# Altium schematic symbol library kmilo17pet-TI_BattMgmt.SchLib: 950 symbols (part 30 of 60)
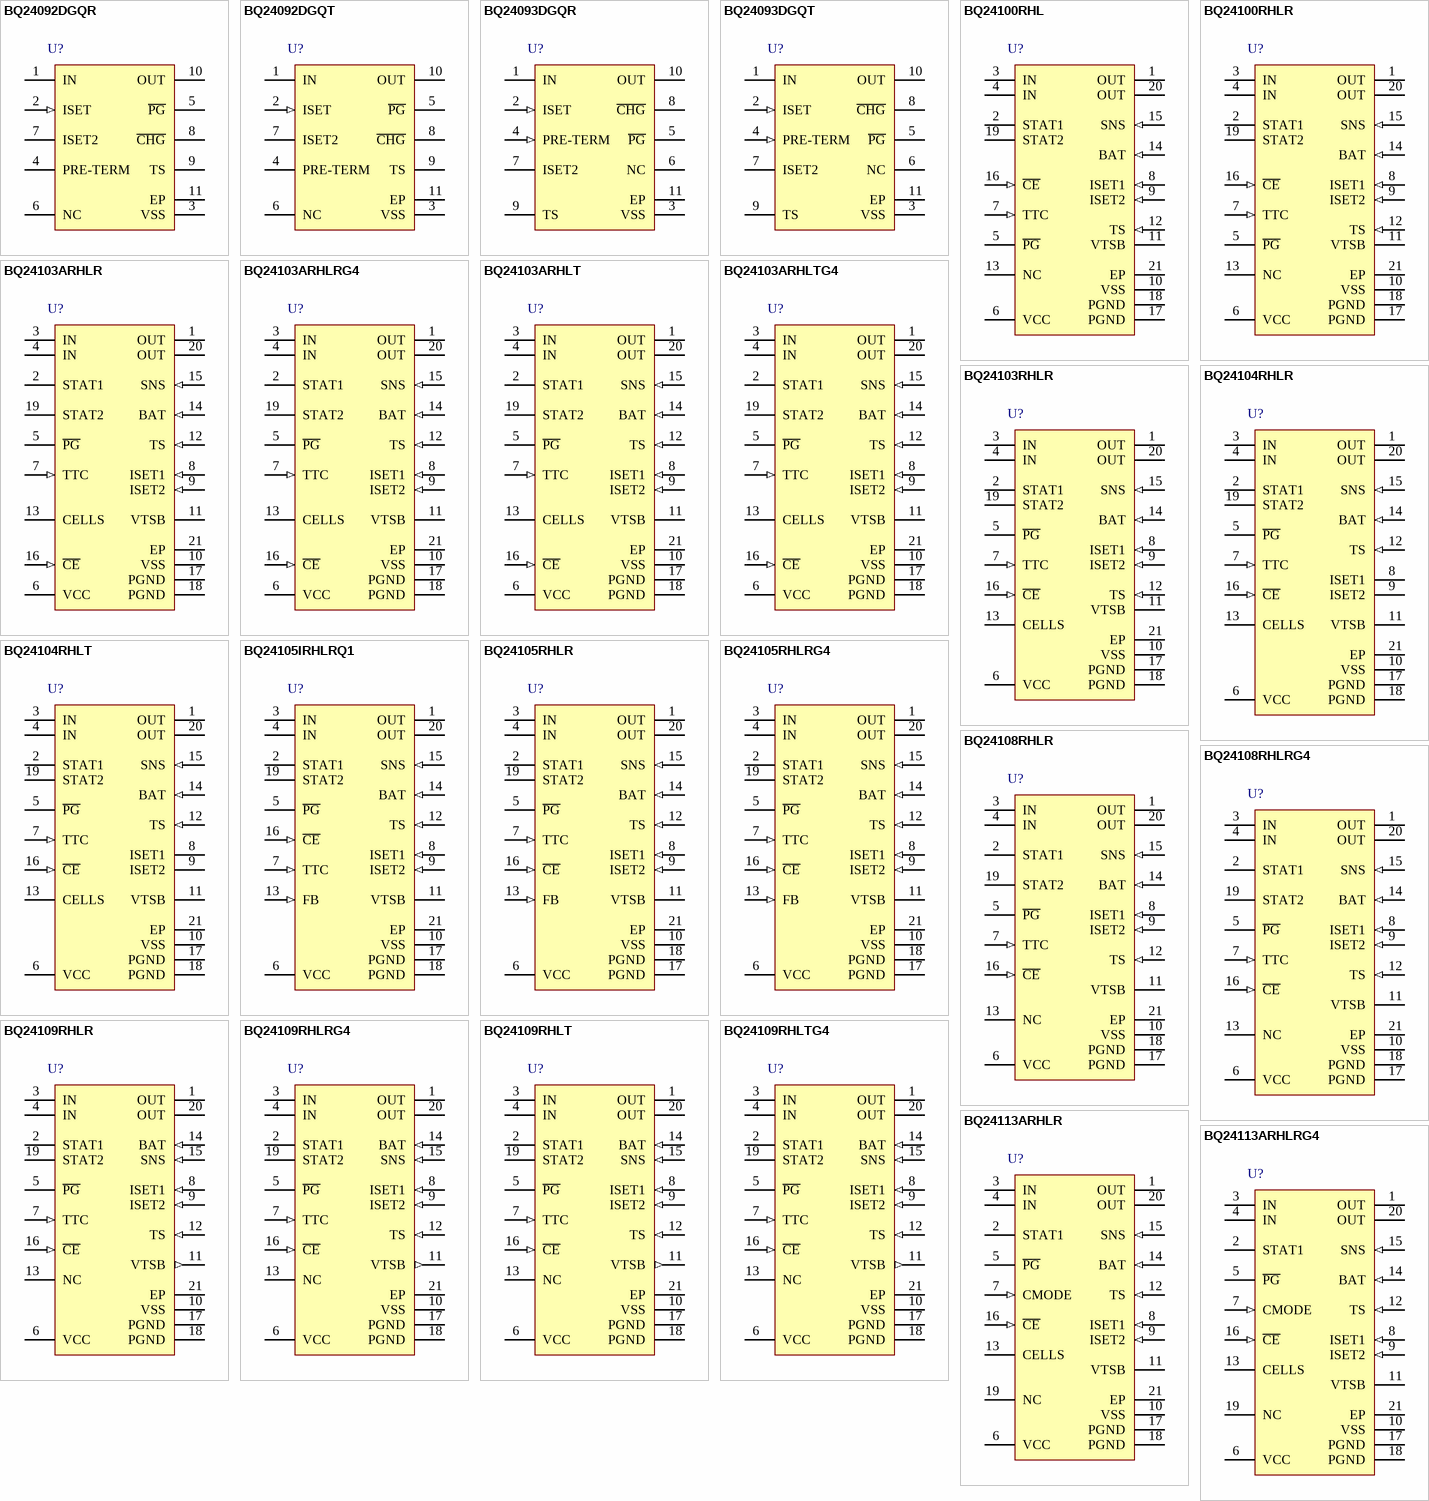
[diagram p63: symbols BQ24092DGQR to BQ24113ARHLRG4]

## BQ24109RHLR
designator U?
Synchronous Switchmode, Li-Ion & Li-Pol Charge Mngmt IC (bqSwitcher), 4.3 V, -40 to 125 degC, 20-pin QFN (RHL), Green (RoHS & no Sb/Br); PartNumber: BQ24109RHLR; Manufacturer: Texas Instruments; Lead Acid: N; Li-Ion: Y; SubFamily: Battery Charge Management; Vin(Min)(V): 4.3; DatasheetVersion: SLUS606O; PackageVersion: revJ, Dec-2011; PackageReference: RHL20-3050X2050TP; PackageDescription: 20-Leads Plastic Quad Flatpack No-Lead, 4.5 x 3.5 x 0.9 mm Body, 0.5 mm Pitch, Exposed Pad; Supplier 1: Digi-Key; Supplier Part Number 1: 296-22956-2-ND; Supplier Part Number 3: 296-22956-6-ND; Eco-Plan: Green (RoHS & no Sb/Br); Li-Polymer: Y; NiCd: N; NiMH: N; Over Voltage Protection: N; Mounting Technology: Surface Mount; ComponentLink1Description: Datasheet; ComponentLink1URL: http://www.ti.com/general/docs/lit/getliterature.tsp?genericPartNumber=BQ24109&fileType=pdf
footprint RHL20-3050X2050TP (QFN, 20-Leads, Body 4.5x3.5mm, Pitch 0.5mm, Thermal Pad 3.05x2.05mm, TI Recommended)
pins: 1 OUT (power) "Charge current output inductor connection. Connect a zener TVS diode between OUT pin and PGND pin to clamp the voltage spike to protect the power MOSFETs during abnormal conditions.", 2 STAT1 (oc) "Charge status 1 (open-drain output). When the transistor turns on indicates charge in process. When it is off and with the condition of STAT2 indicates various charger conditions (See Table 1)", 3 IN (power) "Charger input voltage.", 4 IN (power) "Charger input voltage.", 5 ~{PG} (oc) "Power-good status output (open drain). The transistor turns on when a valid VCC is detected. It is turned off in the sleep mode. P\G\ can be used to drive a LED or communicate with a host processor.", 6 VCC (power) "Analog device input. A 0.1 uF capacitor to VSS is required.", 7 TTC (in) "Timer and termination control. Connect a capacitor from this node to GND to set the bqSWITCHER timer. When this input is low, the timer and termination detection are disabled.", 8 ISET1 (in) "Charger current set point 1 (fast charge). Use a resistor to ground to set this value.", 9 ISET2 (in) "Charge current set point 2 (precharge and termination), set by a resistor connected to ground. A low-level CMODE signal selects the ISET2 charge rate, but if the battery voltage reaches the regulation set point, bqSWITCHER (See Datasheet)", 10 VSS (power) "Analog ground input", 11 VTSB (out) "TS internal bias regulator voltage. Connect capacitor (with a value between a 0.1-uF and 1-uF) between this output and VSS.", 12 TS (in) "Temperature sense input. This input monitors its voltage against an internal threshold to determine if charging is allowed. Use an NTC thermistor and a voltage divider powered from VTSB to develop this voltage. (See Figure (See Datasheet)", 13 NC "No connection. This pin must be left floating in the application.", 14 BAT (in) "Battery voltage sense input. Bypass it with a 0.1u F capacitor to PGND if there are long inductive leads to battery.", 15 SNS (in) "Charge current-sense input. Battery current is sensed via the voltage drop developed on this pin by an external sense resistor in series with the battery pack. A 0.1-uF capacitor to PGND is required.", 16 ~{CE} (in) "Charger enable input. This active low input, if set high, suspends charge and places the device in the low-power sleep mode. Do not pull up this input to VTSB.", 17 PGND (power) "Power ground input", 18 PGND (power) "Power ground input", 19 STAT2 (oc) "Charge status 2 (open-drain output). When the transistor turns on indicates charge is done. When it is off and with the condition of STAT1 indicates various charger conditions (See Table 1)", 20 OUT (power) "Charge current output inductor connection. Connect a zener TVS diode between OUT pin and PGND pin to clamp the voltage spike to protect the power MOSFETs during abnormal conditions.", 21 EP (power) "There is an internal electrical connection between the exposed thermal pad and VSS. The exposed thermal pad must be connected to the same potential as the VSS pin on the printed circuit board. The power pad can be used as a (See Datasheet)"

## BQ24109RHLRG4
designator U?
Synchronous Switchmode, Li-Ion & Li-Pol Charge Mngmt IC (bqSwitcher), 4.3 V, -40 to 125 degC, 20-pin QFN (RHL), Green (RoHS & no Sb/Br); PartNumber: BQ24109RHLRG4; Manufacturer: Texas Instruments; Lead Acid: N; Li-Ion: Y; SubFamily: Battery Charge Management; Vin(Min)(V): 4.3; DatasheetVersion: SLUS606O; PackageVersion: revJ, Dec-2011; PackageReference: RHL20-3050X2050TP; PackageDescription: 20-Leads Plastic Quad Flatpack No-Lead, 4.5 x 3.5 x 0.9 mm Body, 0.5 mm Pitch, Exposed Pad; Supplier 1: Digi-Key; Supplier Part Number 1: BQ24109RHLRG4-ND; Eco-Plan: Green (RoHS & no Sb/Br); Li-Polymer: Y; NiCd: N; NiMH: N; Over Voltage Protection: N; Mounting Technology: Surface Mount; ComponentLink1Description: Datasheet; ComponentLink1URL: http://www.ti.com/general/docs/lit/getliterature.tsp?genericPartNumber=BQ24109&fileType=pdf
footprint RHL20-3050X2050TP (QFN, 20-Leads, Body 4.5x3.5mm, Pitch 0.5mm, Thermal Pad 3.05x2.05mm, TI Recommended)
pins: 1 OUT (power) "Charge current output inductor connection. Connect a zener TVS diode between OUT pin and PGND pin to clamp the voltage spike to protect the power MOSFETs during abnormal conditions.", 2 STAT1 (oc) "Charge status 1 (open-drain output). When the transistor turns on indicates charge in process. When it is off and with the condition of STAT2 indicates various charger conditions (See Table 1)", 3 IN (power) "Charger input voltage.", 4 IN (power) "Charger input voltage.", 5 ~{PG} (oc) "Power-good status output (open drain). The transistor turns on when a valid VCC is detected. It is turned off in the sleep mode. P\G\ can be used to drive a LED or communicate with a host processor.", 6 VCC (power) "Analog device input. A 0.1 uF capacitor to VSS is required.", 7 TTC (in) "Timer and termination control. Connect a capacitor from this node to GND to set the bqSWITCHER timer. When this input is low, the timer and termination detection are disabled.", 8 ISET1 (in) "Charger current set point 1 (fast charge). Use a resistor to ground to set this value.", 9 ISET2 (in) "Charge current set point 2 (precharge and termination), set by a resistor connected to ground. A low-level CMODE signal selects the ISET2 charge rate, but if the battery voltage reaches the regulation set point, bqSWITCHER (See Datasheet)", 10 VSS (power) "Analog ground input", 11 VTSB (out) "TS internal bias regulator voltage. Connect capacitor (with a value between a 0.1-uF and 1-uF) between this output and VSS.", 12 TS (in) "Temperature sense input. This input monitors its voltage against an internal threshold to determine if charging is allowed. Use an NTC thermistor and a voltage divider powered from VTSB to develop this voltage. (See Figure (See Datasheet)", 13 NC "No connection. This pin must be left floating in the application.", 14 BAT (in) "Battery voltage sense input. Bypass it with a 0.1u F capacitor to PGND if there are long inductive leads to battery.", 15 SNS (in) "Charge current-sense input. Battery current is sensed via the voltage drop developed on this pin by an external sense resistor in series with the battery pack. A 0.1-uF capacitor to PGND is required.", 16 ~{CE} (in) "Charger enable input. This active low input, if set high, suspends charge and places the device in the low-power sleep mode. Do not pull up this input to VTSB.", 17 PGND (power) "Power ground input", 18 PGND (power) "Power ground input", 19 STAT2 (oc) "Charge status 2 (open-drain output). When the transistor turns on indicates charge is done. When it is off and with the condition of STAT1 indicates various charger conditions (See Table 1)", 20 OUT (power) "Charge current output inductor connection. Connect a zener TVS diode between OUT pin and PGND pin to clamp the voltage spike to protect the power MOSFETs during abnormal conditions.", 21 EP (power) "There is an internal electrical connection between the exposed thermal pad and VSS. The exposed thermal pad must be connected to the same potential as the VSS pin on the printed circuit board. The power pad can be used as a (See Datasheet)"

## BQ24109RHLT
designator U?
Synchronous Switchmode, Li-Ion & Li-Pol Charge Mngmt IC (bqSwitcher), 4.3 V, -40 to 125 degC, 20-pin QFN (RHL), Green (RoHS & no Sb/Br); PartNumber: BQ24109RHLT; Manufacturer: Texas Instruments; Lead Acid: N; Li-Ion: Y; SubFamily: Battery Charge Management; Vin(Min)(V): 4.3; DatasheetVersion: SLUS606O; PackageVersion: revJ, Dec-2011; PackageReference: RHL20-3050X2050TP; PackageDescription: 20-Leads Plastic Quad Flatpack No-Lead, 4.5 x 3.5 x 0.9 mm Body, 0.5 mm Pitch, Exposed Pad; Supplier 1: Digi-Key; Supplier Part Number 1: BQ24109RHLT-ND; Eco-Plan: Green (RoHS & no Sb/Br); Li-Polymer: Y; NiCd: N; NiMH: N; Over Voltage Protection: N; Mounting Technology: Surface Mount; ComponentLink1Description: Datasheet; ComponentLink1URL: http://www.ti.com/general/docs/lit/getliterature.tsp?genericPartNumber=BQ24109&fileType=pdf
footprint RHL20-3050X2050TP (QFN, 20-Leads, Body 4.5x3.5mm, Pitch 0.5mm, Thermal Pad 3.05x2.05mm, TI Recommended)
pins: 1 OUT (power) "Charge current output inductor connection. Connect a zener TVS diode between OUT pin and PGND pin to clamp the voltage spike to protect the power MOSFETs during abnormal conditions.", 2 STAT1 (oc) "Charge status 1 (open-drain output). When the transistor turns on indicates charge in process. When it is off and with the condition of STAT2 indicates various charger conditions (See Table 1)", 3 IN (power) "Charger input voltage.", 4 IN (power) "Charger input voltage.", 5 ~{PG} (oc) "Power-good status output (open drain). The transistor turns on when a valid VCC is detected. It is turned off in the sleep mode. P\G\ can be used to drive a LED or communicate with a host processor.", 6 VCC (power) "Analog device input. A 0.1 uF capacitor to VSS is required.", 7 TTC (in) "Timer and termination control. Connect a capacitor from this node to GND to set the bqSWITCHER timer. When this input is low, the timer and termination detection are disabled.", 8 ISET1 (in) "Charger current set point 1 (fast charge). Use a resistor to ground to set this value.", 9 ISET2 (in) "Charge current set point 2 (precharge and termination), set by a resistor connected to ground. A low-level CMODE signal selects the ISET2 charge rate, but if the battery voltage reaches the regulation set point, bqSWITCHER (See Datasheet)", 10 VSS (power) "Analog ground input", 11 VTSB (out) "TS internal bias regulator voltage. Connect capacitor (with a value between a 0.1-uF and 1-uF) between this output and VSS.", 12 TS (in) "Temperature sense input. This input monitors its voltage against an internal threshold to determine if charging is allowed. Use an NTC thermistor and a voltage divider powered from VTSB to develop this voltage. (See Figure (See Datasheet)", 13 NC "No connection. This pin must be left floating in the application.", 14 BAT (in) "Battery voltage sense input. Bypass it with a 0.1u F capacitor to PGND if there are long inductive leads to battery.", 15 SNS (in) "Charge current-sense input. Battery current is sensed via the voltage drop developed on this pin by an external sense resistor in series with the battery pack. A 0.1-uF capacitor to PGND is required.", 16 ~{CE} (in) "Charger enable input. This active low input, if set high, suspends charge and places the device in the low-power sleep mode. Do not pull up this input to VTSB.", 17 PGND (power) "Power ground input", 18 PGND (power) "Power ground input", 19 STAT2 (oc) "Charge status 2 (open-drain output). When the transistor turns on indicates charge is done. When it is off and with the condition of STAT1 indicates various charger conditions (See Table 1)", 20 OUT (power) "Charge current output inductor connection. Connect a zener TVS diode between OUT pin and PGND pin to clamp the voltage spike to protect the power MOSFETs during abnormal conditions.", 21 EP (power) "There is an internal electrical connection between the exposed thermal pad and VSS. The exposed thermal pad must be connected to the same potential as the VSS pin on the printed circuit board. The power pad can be used as a (See Datasheet)"

## BQ24109RHLTG4
designator U?
Synchronous Switchmode, Li-Ion & Li-Pol Charge Mngmt IC (bqSwitcher), 4.3 V, -40 to 125 degC, 20-pin QFN (RHL), Green (RoHS & no Sb/Br); PartNumber: BQ24109RHLTG4; Manufacturer: Texas Instruments; Lead Acid: N; Li-Ion: Y; SubFamily: Battery Charge Management; Vin(Min)(V): 4.3; DatasheetVersion: SLUS606O; PackageVersion: revJ, Dec-2011; PackageReference: RHL20-3050X2050TP; PackageDescription: 20-Leads Plastic Quad Flatpack No-Lead, 4.5 x 3.5 x 0.9 mm Body, 0.5 mm Pitch, Exposed Pad; Supplier 1: Digi-Key; Supplier Part Number 1: BQ24109RHLTG4-ND; Eco-Plan: Green (RoHS & no Sb/Br); Li-Polymer: Y; NiCd: N; NiMH: N; Over Voltage Protection: N; Mounting Technology: Surface Mount; ComponentLink1Description: Datasheet; ComponentLink1URL: http://www.ti.com/general/docs/lit/getliterature.tsp?genericPartNumber=BQ24109&fileType=pdf
footprint RHL20-3050X2050TP (QFN, 20-Leads, Body 4.5x3.5mm, Pitch 0.5mm, Thermal Pad 3.05x2.05mm, TI Recommended)
pins: 1 OUT (power) "Charge current output inductor connection. Connect a zener TVS diode between OUT pin and PGND pin to clamp the voltage spike to protect the power MOSFETs during abnormal conditions.", 2 STAT1 (oc) "Charge status 1 (open-drain output). When the transistor turns on indicates charge in process. When it is off and with the condition of STAT2 indicates various charger conditions (See Table 1)", 3 IN (power) "Charger input voltage.", 4 IN (power) "Charger input voltage.", 5 ~{PG} (oc) "Power-good status output (open drain). The transistor turns on when a valid VCC is detected. It is turned off in the sleep mode. P\G\ can be used to drive a LED or communicate with a host processor.", 6 VCC (power) "Analog device input. A 0.1 uF capacitor to VSS is required.", 7 TTC (in) "Timer and termination control. Connect a capacitor from this node to GND to set the bqSWITCHER timer. When this input is low, the timer and termination detection are disabled.", 8 ISET1 (in) "Charger current set point 1 (fast charge). Use a resistor to ground to set this value.", 9 ISET2 (in) "Charge current set point 2 (precharge and termination), set by a resistor connected to ground. A low-level CMODE signal selects the ISET2 charge rate, but if the battery voltage reaches the regulation set point, bqSWITCHER (See Datasheet)", 10 VSS (power) "Analog ground input", 11 VTSB (out) "TS internal bias regulator voltage. Connect capacitor (with a value between a 0.1-uF and 1-uF) between this output and VSS.", 12 TS (in) "Temperature sense input. This input monitors its voltage against an internal threshold to determine if charging is allowed. Use an NTC thermistor and a voltage divider powered from VTSB to develop this voltage. (See Figure (See Datasheet)", 13 NC "No connection. This pin must be left floating in the application.", 14 BAT (in) "Battery voltage sense input. Bypass it with a 0.1u F capacitor to PGND if there are long inductive leads to battery.", 15 SNS (in) "Charge current-sense input. Battery current is sensed via the voltage drop developed on this pin by an external sense resistor in series with the battery pack. A 0.1-uF capacitor to PGND is required.", 16 ~{CE} (in) "Charger enable input. This active low input, if set high, suspends charge and places the device in the low-power sleep mode. Do not pull up this input to VTSB.", 17 PGND (power) "Power ground input", 18 PGND (power) "Power ground input", 19 STAT2 (oc) "Charge status 2 (open-drain output). When the transistor turns on indicates charge is done. When it is off and with the condition of STAT1 indicates various charger conditions (See Table 1)", 20 OUT (power) "Charge current output inductor connection. Connect a zener TVS diode between OUT pin and PGND pin to clamp the voltage spike to protect the power MOSFETs during abnormal conditions.", 21 EP (power) "There is an internal electrical connection between the exposed thermal pad and VSS. The exposed thermal pad must be connected to the same potential as the VSS pin on the printed circuit board. The power pad can be used as a (See Datasheet)"

## BQ24113ARHLR
designator U?
Host-Controlled Synchronous Swithc-Mode Li-Ion Charger with 2 A FET, 1 or 2 Cell, 4.3 V, -40 to 85 degC, 20-pin QFN (RHL), Green (RoHS & no Sb/Br); PartNumber: BQ24113ARHLR; Manufacturer: Texas Instruments; Lead Acid: N; Li-Ion: Y; SubFamily: Battery Charge Management; Vin(Min)(V): 4.3; DatasheetVersion: SLUS606O; PackageVersion: revJ, Dec-2011; PackageReference: RHL20-3050X2050TP; PackageDescription: 20-Leads Plastic Quad Flatpack No-Lead, 4.5 x 3.5 x 0.9 mm Body, 0.5 mm Pitch, Exposed Pad; Supplier 1: Digi-Key; Supplier Part Number 1: BQ24113ARHLR-ND; Supplier Part Number 3: 595-BQ24113ARHLR; Eco-Plan: Green (RoHS & no Sb/Br); Li-Polymer: Y; NiCd: N; NiMH: N; Over Voltage Protection: N; Mounting Technology: Surface Mount; ComponentLink1Description: Datasheet; ComponentLink1URL: http://www.ti.com/general/docs/lit/getliterature.tsp?genericPartNumber=BQ24113A&fileType=pdf
footprint RHL20-3050X2050TP (QFN, 20-Leads, Body 4.5x3.5mm, Pitch 0.5mm, Thermal Pad 3.05x2.05mm, TI Recommended)
pins: 1 OUT (power) "Charge current output inductor connection. Connect a zener TVS diode between OUT pin and PGND pin to clamp the voltage spike to protect the power MOSFETs during abnormal conditions.", 2 STAT1 (oc) "Charge status 1 (open-drain output). When the transistor turns on indicates charge in process. When it is off and with the condition of STAT2 indicates various charger conditions (See Table 1)", 3 IN (power) "Charger input voltage", 4 IN (power) "Charger input voltage", 5 ~{PG} (oc) "Power-good status output (open drain). The transistor turns on when a valid VCC is detected. It is turned off in the sleep mode. P\G\ can be used to drive a LED or communicate with a host processor.", 6 VCC (power) "Analog device input. A 0.1 uF capacitor to VSS is required.", 7 CMODE (in) "Charge mode selection: low for precharge as set by ISET2 pin and high (pull up to VTSB or <7 V) for fast charge as set by ISET1.", 8 ISET1 (in) "Charger current set point 1 (fast charge). Use a resistor to ground to set this value.", 9 ISET2 (in) "Charger current set point 1 (fast charge). Use a resistor to ground to set this value.connected to ground. A low-level CMODE signal selects the ISET2 charge rate, but if the battery voltage reaches the regulation set (See Datasheet)", 10 VSS (power) "Analog ground input", 11 VTSB "TS internal bias regulator voltage. Connect capacitor (with a value between a 0.1-uF and 1-uF) between this output and VSS.", 12 TS (in) "Temperature sense input. This input monitors its voltage against an internal threshold to determine if charging is allowed. Use an NTC thermistor and a voltage divider powered from VTSB to develop this voltage. (See Figure (See Datasheet)", 13 CELLS "Available on parts with fixed output voltage. Ground or float for single-cell operation (4.2 V). For two-cell operation (8.4 V) pull up this pin with a resistor to VCC.", 14 BAT (in) "Battery voltage sense input. Bypass it with a 0.1 uF capacitor to PGND if there are long inductive leads to battery.", 15 SNS (in) "Charge current-sense input. Battery current is sensed via the voltage drop developed on this pin by an external sense resistor in series with the battery pack. A 0.1-uF capacitor to PGND is required.", 16 ~{CE} (in) "Charger enable input. This active low input, if set high, suspends charge and places the device in the low-power sleep mode. Do not pull up this input to VTSB.", 17 PGND (power) "Power ground input", 18 PGND (power) "Power ground input", 19 NC "No connection. This pin must be left floating in the application.", 20 OUT (power) "Charge current output inductor connection. Connect a zener TVS diode between OUT pin and PGND pin to clamp the voltage spike to protect the power MOSFETs during abnormal conditions.", 21 EP (power) "There is an internal electrical connection between the exposed thermal pad and VSS. The exposed thermal pad must be connected to the same potential as the VSS pin on the printed circuit board. The power pad can be used as a (See Datasheet)"

## BQ24113ARHLRG4
designator U?
Host-Controlled Synchronous Swithc-Mode Li-Ion Charger with 2 A FET, 1 or 2 Cell, 4.3 V, -40 to 85 degC, 20-pin QFN (RHL), Green (RoHS & no Sb/Br); PartNumber: BQ24113ARHLRG4; Manufacturer: Texas Instruments; Lead Acid: N; Li-Ion: Y; SubFamily: Battery Charge Management; Vin(Min)(V): 4.3; DatasheetVersion: SLUS606O; PackageVersion: revJ, Dec-2011; PackageReference: RHL20-3050X2050TP; PackageDescription: 20-Leads Plastic Quad Flatpack No-Lead, 4.5 x 3.5 x 0.9 mm Body, 0.5 mm Pitch, Exposed Pad; Supplier 1: Digi-Key; Supplier Part Number 1: BQ24113ARHLRG4-ND; Supplier Part Number 3: 595-BQ24113ARHLRG4; Eco-Plan: Green (RoHS & no Sb/Br); Li-Polymer: Y; NiCd: N; NiMH: N; Over Voltage Protection: N; Mounting Technology: Surface Mount; ComponentLink1Description: Datasheet; ComponentLink1URL: http://www.ti.com/general/docs/lit/getliterature.tsp?genericPartNumber=BQ24113A&fileType=pdf
footprint RHL20-3050X2050TP (QFN, 20-Leads, Body 4.5x3.5mm, Pitch 0.5mm, Thermal Pad 3.05x2.05mm, TI Recommended)
pins: 1 OUT (power) "Charge current output inductor connection. Connect a zener TVS diode between OUT pin and PGND pin to clamp the voltage spike to protect the power MOSFETs during abnormal conditions.", 2 STAT1 (oc) "Charge status 1 (open-drain output). When the transistor turns on indicates charge in process. When it is off and with the condition of STAT2 indicates various charger conditions (See Table 1)", 3 IN (power) "Charger input voltage", 4 IN (power) "Charger input voltage", 5 ~{PG} (oc) "Power-good status output (open drain). The transistor turns on when a valid VCC is detected. It is turned off in the sleep mode. P\G\ can be used to drive a LED or communicate with a host processor.", 6 VCC (power) "Analog device input. A 0.1 uF capacitor to VSS is required.", 7 CMODE (in) "Charge mode selection: low for precharge as set by ISET2 pin and high (pull up to VTSB or <7 V) for fast charge as set by ISET1.", 8 ISET1 (in) "Charger current set point 1 (fast charge). Use a resistor to ground to set this value.", 9 ISET2 (in) "Charger current set point 1 (fast charge). Use a resistor to ground to set this value.connected to ground. A low-level CMODE signal selects the ISET2 charge rate, but if the battery voltage reaches the regulation set (See Datasheet)", 10 VSS (power) "Analog ground input", 11 VTSB "TS internal bias regulator voltage. Connect capacitor (with a value between a 0.1-uF and 1-uF) between this output and VSS.", 12 TS (in) "Temperature sense input. This input monitors its voltage against an internal threshold to determine if charging is allowed. Use an NTC thermistor and a voltage divider powered from VTSB to develop this voltage. (See Figure (See Datasheet)", 13 CELLS "Available on parts with fixed output voltage. Ground or float for single-cell operation (4.2 V). For two-cell operation (8.4 V) pull up this pin with a resistor to VCC.", 14 BAT (in) "Battery voltage sense input. Bypass it with a 0.1 uF capacitor to PGND if there are long inductive leads to battery.", 15 SNS (in) "Charge current-sense input. Battery current is sensed via the voltage drop developed on this pin by an external sense resistor in series with the battery pack. A 0.1-uF capacitor to PGND is required.", 16 ~{CE} (in) "Charger enable input. This active low input, if set high, suspends charge and places the device in the low-power sleep mode. Do not pull up this input to VTSB.", 17 PGND (power) "Power ground input", 18 PGND (power) "Power ground input", 19 NC "No connection. This pin must be left floating in the application.", 20 OUT (power) "Charge current output inductor connection. Connect a zener TVS diode between OUT pin and PGND pin to clamp the voltage spike to protect the power MOSFETs during abnormal conditions.", 21 EP (power) "There is an internal electrical connection between the exposed thermal pad and VSS. The exposed thermal pad must be connected to the same potential as the VSS pin on the printed circuit board. The power pad can be used as a (See Datasheet)"

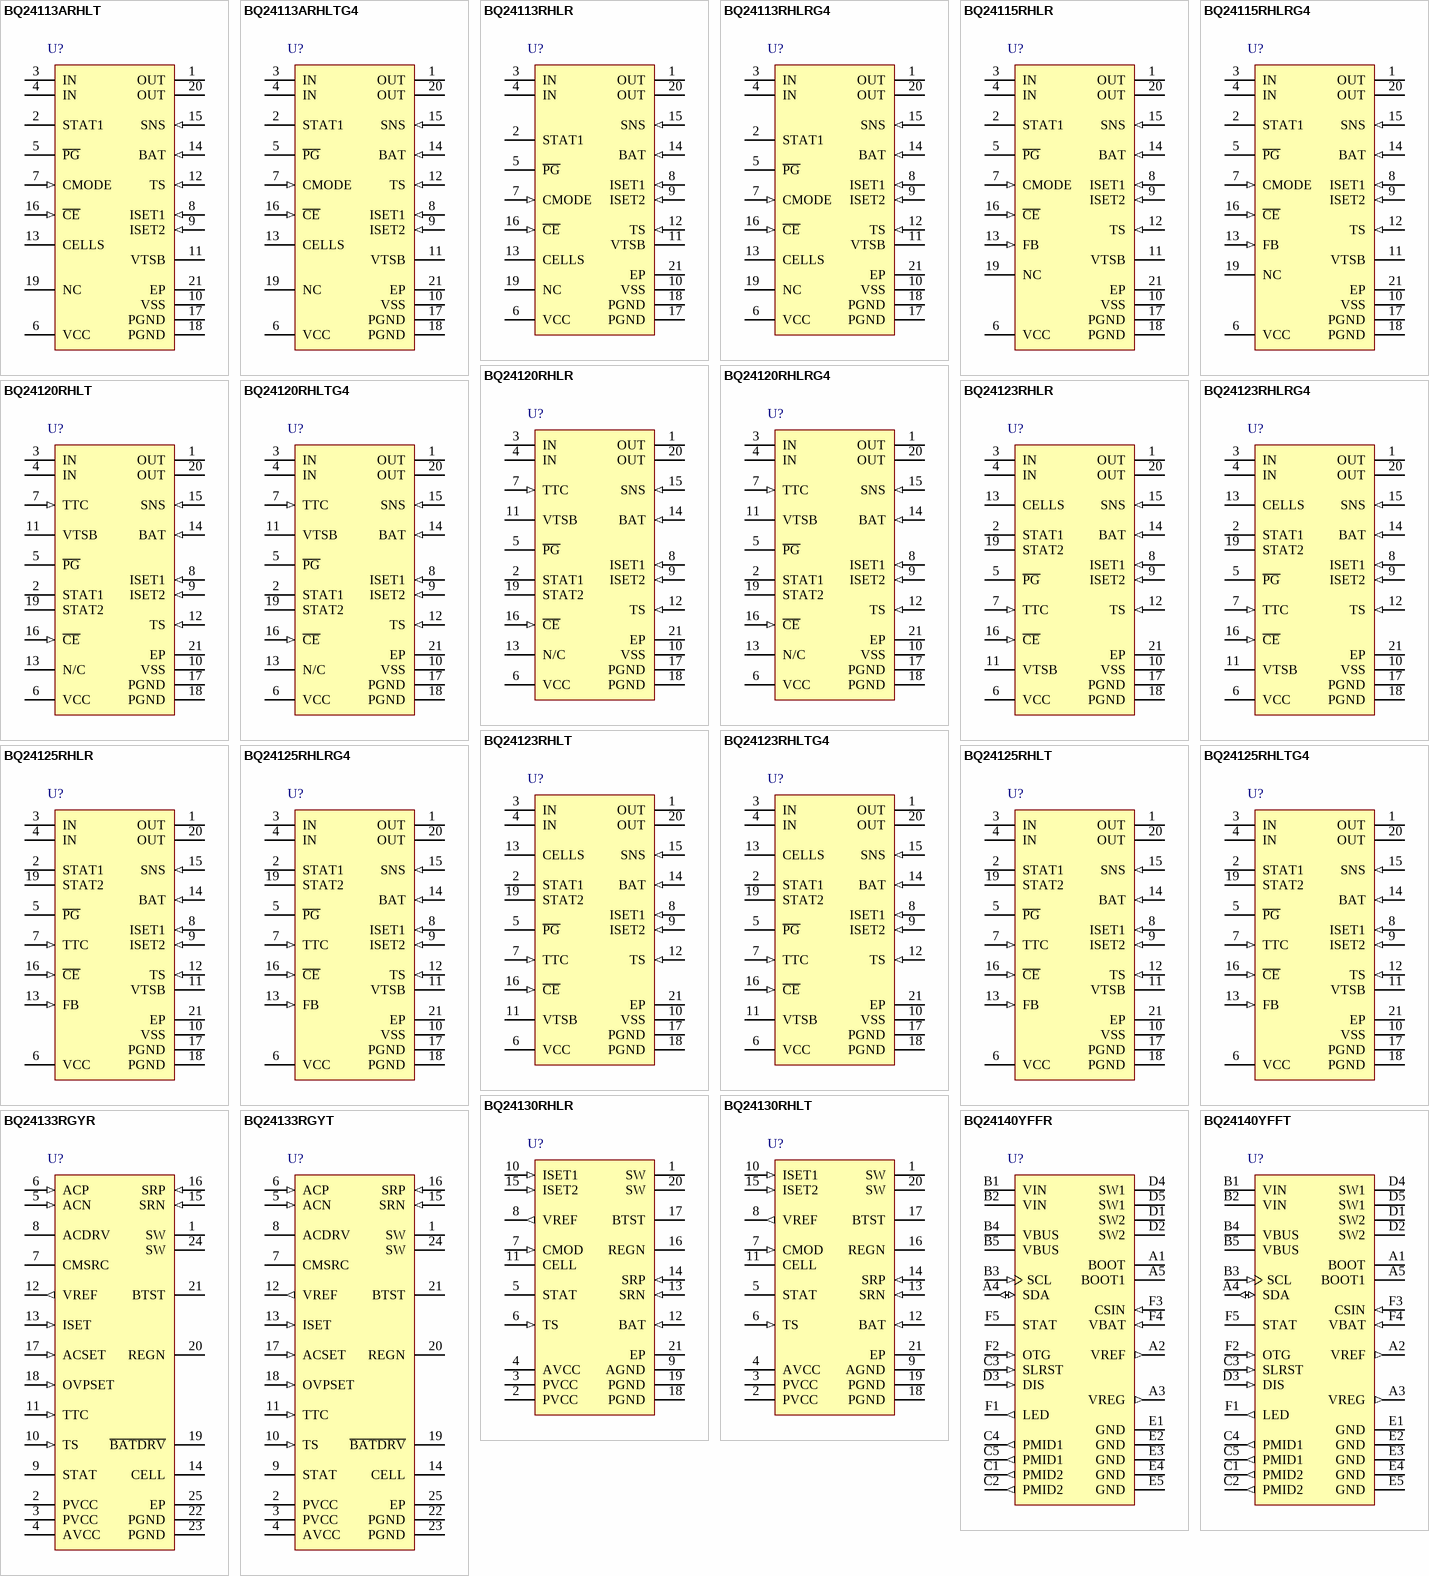
[diagram p18: symbols BQ24113ARHLT to BQ24140YFFT]

## BQ24113ARHLT
designator U?
Host-Controlled Synchronous Swithc-Mode Li-Ion Charger with 2 A FET, 1 or 2 Cell, 4.3 V, -40 to 85 degC, 20-pin QFN (RHL), Green (RoHS & no Sb/Br); PartNumber: BQ24113ARHLT; Manufacturer: Texas Instruments; Lead Acid: N; Li-Ion: Y; SubFamily: Battery Charge Management; Vin(Min)(V): 4.3; DatasheetVersion: SLUS606O; PackageVersion: revJ, Dec-2011; PackageReference: RHL20-3050X2050TP; PackageDescription: 20-Leads Plastic Quad Flatpack No-Lead, 4.5 x 3.5 x 0.9 mm Body, 0.5 mm Pitch, Exposed Pad; Supplier 1: Digi-Key; Supplier Part Number 1: 296-22087-2-ND; Supplier Part Number 3: 296-22087-6-ND; Eco-Plan: Green (RoHS & no Sb/Br); Li-Polymer: Y; NiCd: N; NiMH: N; Over Voltage Protection: N; Mounting Technology: Surface Mount; ComponentLink1Description: Datasheet; ComponentLink1URL: http://www.ti.com/general/docs/lit/getliterature.tsp?genericPartNumber=BQ24113A&fileType=pdf
footprint RHL20-3050X2050TP (QFN, 20-Leads, Body 4.5x3.5mm, Pitch 0.5mm, Thermal Pad 3.05x2.05mm, TI Recommended)
pins: 1 OUT (power) "Charge current output inductor connection. Connect a zener TVS diode between OUT pin and PGND pin to clamp the voltage spike to protect the power MOSFETs during abnormal conditions.", 2 STAT1 (oc) "Charge status 1 (open-drain output). When the transistor turns on indicates charge in process. When it is off and with the condition of STAT2 indicates various charger conditions (See Table 1)", 3 IN (power) "Charger input voltage", 4 IN (power) "Charger input voltage", 5 ~{PG} (oc) "Power-good status output (open drain). The transistor turns on when a valid VCC is detected. It is turned off in the sleep mode. P\G\ can be used to drive a LED or communicate with a host processor.", 6 VCC (power) "Analog device input. A 0.1 uF capacitor to VSS is required.", 7 CMODE (in) "Charge mode selection: low for precharge as set by ISET2 pin and high (pull up to VTSB or <7 V) for fast charge as set by ISET1.", 8 ISET1 (in) "Charger current set point 1 (fast charge). Use a resistor to ground to set this value.", 9 ISET2 (in) "Charger current set point 1 (fast charge). Use a resistor to ground to set this value.connected to ground. A low-level CMODE signal selects the ISET2 charge rate, but if the battery voltage reaches the regulation set (See Datasheet)", 10 VSS (power) "Analog ground input", 11 VTSB "TS internal bias regulator voltage. Connect capacitor (with a value between a 0.1-uF and 1-uF) between this output and VSS.", 12 TS (in) "Temperature sense input. This input monitors its voltage against an internal threshold to determine if charging is allowed. Use an NTC thermistor and a voltage divider powered from VTSB to develop this voltage. (See Figure (See Datasheet)", 13 CELLS "Available on parts with fixed output voltage. Ground or float for single-cell operation (4.2 V). For two-cell operation (8.4 V) pull up this pin with a resistor to VCC.", 14 BAT (in) "Battery voltage sense input. Bypass it with a 0.1 uF capacitor to PGND if there are long inductive leads to battery.", 15 SNS (in) "Charge current-sense input. Battery current is sensed via the voltage drop developed on this pin by an external sense resistor in series with the battery pack. A 0.1-uF capacitor to PGND is required.", 16 ~{CE} (in) "Charger enable input. This active low input, if set high, suspends charge and places the device in the low-power sleep mode. Do not pull up this input to VTSB.", 17 PGND (power) "Power ground input", 18 PGND (power) "Power ground input", 19 NC "No connection. This pin must be left floating in the application.", 20 OUT (power) "Charge current output inductor connection. Connect a zener TVS diode between OUT pin and PGND pin to clamp the voltage spike to protect the power MOSFETs during abnormal conditions.", 21 EP (power) "There is an internal electrical connection between the exposed thermal pad and VSS. The exposed thermal pad must be connected to the same potential as the VSS pin on the printed circuit board. The power pad can be used as a (See Datasheet)"

## BQ24113ARHLTG4
designator U?
Host-Controlled Synchronous Swithc-Mode Li-Ion Charger with 2 A FET, 1 or 2 Cell, 4.3 V, -40 to 85 degC, 20-pin QFN (RHL), Green (RoHS & no Sb/Br); PartNumber: BQ24113ARHLTG4; Manufacturer: Texas Instruments; Lead Acid: N; Li-Ion: Y; SubFamily: Battery Charge Management; Vin(Min)(V): 4.3; DatasheetVersion: SLUS606O; PackageVersion: revJ, Dec-2011; PackageReference: RHL20-3050X2050TP; PackageDescription: 20-Leads Plastic Quad Flatpack No-Lead, 4.5 x 3.5 x 0.9 mm Body, 0.5 mm Pitch, Exposed Pad; Supplier 1: Digi-Key; Supplier Part Number 1: BQ24113ARHLTG4-ND; Supplier Part Number 3: 1494885RL; Eco-Plan: Green (RoHS & no Sb/Br); Li-Polymer: Y; NiCd: N; NiMH: N; Over Voltage Protection: N; Mounting Technology: Surface Mount; ComponentLink1Description: Datasheet; ComponentLink1URL: http://www.ti.com/general/docs/lit/getliterature.tsp?genericPartNumber=BQ24113A&fileType=pdf
footprint RHL20-3050X2050TP (QFN, 20-Leads, Body 4.5x3.5mm, Pitch 0.5mm, Thermal Pad 3.05x2.05mm, TI Recommended)
pins: 1 OUT (power) "Charge current output inductor connection. Connect a zener TVS diode between OUT pin and PGND pin to clamp the voltage spike to protect the power MOSFETs during abnormal conditions.", 2 STAT1 (oc) "Charge status 1 (open-drain output). When the transistor turns on indicates charge in process. When it is off and with the condition of STAT2 indicates various charger conditions (See Table 1)", 3 IN (power) "Charger input voltage", 4 IN (power) "Charger input voltage", 5 ~{PG} (oc) "Power-good status output (open drain). The transistor turns on when a valid VCC is detected. It is turned off in the sleep mode. P\G\ can be used to drive a LED or communicate with a host processor.", 6 VCC (power) "Analog device input. A 0.1 uF capacitor to VSS is required.", 7 CMODE (in) "Charge mode selection: low for precharge as set by ISET2 pin and high (pull up to VTSB or <7 V) for fast charge as set by ISET1.", 8 ISET1 (in) "Charger current set point 1 (fast charge). Use a resistor to ground to set this value.", 9 ISET2 (in) "Charger current set point 1 (fast charge). Use a resistor to ground to set this value.connected to ground. A low-level CMODE signal selects the ISET2 charge rate, but if the battery voltage reaches the regulation set (See Datasheet)", 10 VSS (power) "Analog ground input", 11 VTSB "TS internal bias regulator voltage. Connect capacitor (with a value between a 0.1-uF and 1-uF) between this output and VSS.", 12 TS (in) "Temperature sense input. This input monitors its voltage against an internal threshold to determine if charging is allowed. Use an NTC thermistor and a voltage divider powered from VTSB to develop this voltage. (See Figure (See Datasheet)", 13 CELLS "Available on parts with fixed output voltage. Ground or float for single-cell operation (4.2 V). For two-cell operation (8.4 V) pull up this pin with a resistor to VCC.", 14 BAT (in) "Battery voltage sense input. Bypass it with a 0.1 uF capacitor to PGND if there are long inductive leads to battery.", 15 SNS (in) "Charge current-sense input. Battery current is sensed via the voltage drop developed on this pin by an external sense resistor in series with the battery pack. A 0.1-uF capacitor to PGND is required.", 16 ~{CE} (in) "Charger enable input. This active low input, if set high, suspends charge and places the device in the low-power sleep mode. Do not pull up this input to VTSB.", 17 PGND (power) "Power ground input", 18 PGND (power) "Power ground input", 19 NC "No connection. This pin must be left floating in the application.", 20 OUT (power) "Charge current output inductor connection. Connect a zener TVS diode between OUT pin and PGND pin to clamp the voltage spike to protect the power MOSFETs during abnormal conditions.", 21 EP (power) "There is an internal electrical connection between the exposed thermal pad and VSS. The exposed thermal pad must be connected to the same potential as the VSS pin on the printed circuit board. The power pad can be used as a (See Datasheet)"

## BQ24113RHLR
designator U?
Host-controlled Synchronous Switch-Mode Li-Ion Charger with 2 A FET in QFN-20, 1 or 2 Cell, 4.3 V, -40 to 85 degC, 20-pin QFN (RHL), Green (RoHS & no Sb/Br); PartNumber: BQ24113RHLR; Manufacturer: Texas Instruments; Lead Acid: N; Li-Ion: Y; SubFamily: Battery Charge Management; Vin(Min)(V): 4.3; DatasheetVersion: SLUS606O; PackageVersion: revJ, Dec-2011; PackageReference: RHL20-3050X2050TP; PackageDescription: 20-Leads Plastic Quad Flatpack No-Lead, 4.5 x 3.5 x 0.9 mm Body, 0.5 mm Pitch, Exposed Pad; Supplier 1: Digi-Key; Supplier Part Number 1: 296-17156-2-ND; Supplier Part Number 3: 296-17156-6-ND; Eco-Plan: Green (RoHS & no Sb/Br); Li-Polymer: Y; NiCd: N; NiMH: N; Over Voltage Protection: N; Mounting Technology: Surface Mount; ComponentLink1Description: Datasheet; ComponentLink1URL: http://www.ti.com/general/docs/lit/getliterature.tsp?genericPartNumber=BQ24113&fileType=pdf
footprint RHL20-3050X2050TP (QFN, 20-Leads, Body 4.5x3.5mm, Pitch 0.5mm, Thermal Pad 3.05x2.05mm, TI Recommended)
pins: 1 OUT (power) "Charge current output inductor connection. Connect a zener TVS diode between OUT pin and PGND pin to clamp the voltage spike to protect the power MOSFETs during abnormal conditions.", 2 STAT1 (oc) "Charge status 1 (open-drain output). When the transistor turns on indicates charge in process. When it is off and with the condition of STAT2 indicates various charger conditions (See Table 1)", 3 IN (power) "Charger input voltage.", 4 IN (power) "Charger input voltage.", 5 ~{PG} (oc) "Power-good status output (open drain). The transistor turns on when a valid VCC is detected. It is turned off in the sleep mode. PG can be used to drive a LED or communicate with a host processor.", 6 VCC (power) "Analog device input. A 0.1 uF capacitor to VSS is required.", 7 CMODE (in) "Charge mode selection: low for precharge as set by ISET2 pin and high (pull up to VTSB or <7 V) for fast charge as set by ISET1.", 8 ISET1 (in) "Charger current set point 1 (fast charge). Use a resistor to ground to set this value.", 9 ISET2 (in) "Charge current set point 2 (precharge and termination), set by a resistor connected to ground. A low-level CMODE signal selects the ISET2 charge rate, but if the battery voltage reaches the regulation set point, bqSWITCHER (See Datasheet)", 10 VSS (power) "Analog ground input", 11 VTSB "TS internal bias regulator voltage. Connect capacitor (with a value between a 0.1-uF and 1-uF) between this output and VSS.", 12 TS (in) "Temperature sense input. This input monitors its voltage against an internal threshold to determine if charging is allowed. Use an NTC thermistor and a voltage divider powered from VTSB to develop this voltage. (See Figure (See Datasheet)", 13 CELLS "Available on parts with fixed output voltage. Ground or float for single-cell operation (4.2 V). For two-cell operation (8.4 V) pull up this pin with a resistor to VCC.", 14 BAT (in) "Battery voltage sense input. Bypass it with a 0.1 uF capacitor to PGND if there are long inductive leads to battery.", 15 SNS (in) "Charge current-sense input. Battery current is sensed via the voltage drop developed on this pin by an external sense resistor in series with the battery pack. A 0.1-uF capacitor to PGND is required.", 16 ~{CE} (in) "Charger enable input. This active low input, if set high, suspends charge and places the device in the low-power sleep mode. Do not pull up this input to VTSB.", 17 PGND (power) "Power ground input", 18 PGND (power) "Power ground input", 19 NC "No connection. This pin must be left floating in the application.", 20 OUT (power) "Charge current output inductor connection. Connect a zener TVS diode between OUT pin and PGND pin to clamp the voltage spike to protect the power MOSFETs during abnormal conditions.", 21 EP (power) "There is an internal electrical connection between the exposed thermal pad and VSS. The exposed thermal pad must be connected to the same potential as the VSS pin on the printed circuit board. The power pad can be used as a (See Datasheet)"

## BQ24113RHLRG4
designator U?
Host-controlled Synchronous Switch-Mode Li-Ion Charger with 2 A FET in QFN-20, 1 or 2 Cell, 4.3 V, -40 to 85 degC, 20-pin QFN (RHL), Green (RoHS & no Sb/Br); PartNumber: BQ24113RHLRG4; Manufacturer: Texas Instruments; Lead Acid: N; Li-Ion: Y; SubFamily: Battery Charge Management; Vin(Min)(V): 4.3; DatasheetVersion: SLUS606O; PackageVersion: revJ, Dec-2011; PackageReference: RHL20-3050X2050TP; PackageDescription: 20-Leads Plastic Quad Flatpack No-Lead, 4.5 x 3.5 x 0.9 mm Body, 0.5 mm Pitch, Exposed Pad; Supplier 1: Digi-Key; Supplier Part Number 1: BQ24113RHLRG4-ND; Supplier Part Number 3: 595-BQ24113RHLRG4; Eco-Plan: Green (RoHS & no Sb/Br); Li-Polymer: Y; NiCd: N; NiMH: N; Over Voltage Protection: N; Mounting Technology: Surface Mount; ComponentLink1Description: Datasheet; ComponentLink1URL: http://www.ti.com/general/docs/lit/getliterature.tsp?genericPartNumber=BQ24113&fileType=pdf
footprint RHL20-3050X2050TP (QFN, 20-Leads, Body 4.5x3.5mm, Pitch 0.5mm, Thermal Pad 3.05x2.05mm, TI Recommended)
pins: 1 OUT (power) "Charge current output inductor connection. Connect a zener TVS diode between OUT pin and PGND pin to clamp the voltage spike to protect the power MOSFETs during abnormal conditions.", 2 STAT1 (oc) "Charge status 1 (open-drain output). When the transistor turns on indicates charge in process. When it is off and with the condition of STAT2 indicates various charger conditions (See Table 1)", 3 IN (power) "Charger input voltage.", 4 IN (power) "Charger input voltage.", 5 ~{PG} (oc) "Power-good status output (open drain). The transistor turns on when a valid VCC is detected. It is turned off in the sleep mode. PG can be used to drive a LED or communicate with a host processor.", 6 VCC (power) "Analog device input. A 0.1 uF capacitor to VSS is required.", 7 CMODE (in) "Charge mode selection: low for precharge as set by ISET2 pin and high (pull up to VTSB or <7 V) for fast charge as set by ISET1.", 8 ISET1 (in) "Charger current set point 1 (fast charge). Use a resistor to ground to set this value.", 9 ISET2 (in) "Charge current set point 2 (precharge and termination), set by a resistor connected to ground. A low-level CMODE signal selects the ISET2 charge rate, but if the battery voltage reaches the regulation set point, bqSWITCHER (See Datasheet)", 10 VSS (power) "Analog ground input", 11 VTSB "TS internal bias regulator voltage. Connect capacitor (with a value between a 0.1-uF and 1-uF) between this output and VSS.", 12 TS (in) "Temperature sense input. This input monitors its voltage against an internal threshold to determine if charging is allowed. Use an NTC thermistor and a voltage divider powered from VTSB to develop this voltage. (See Figure (See Datasheet)", 13 CELLS "Available on parts with fixed output voltage. Ground or float for single-cell operation (4.2 V). For two-cell operation (8.4 V) pull up this pin with a resistor to VCC.", 14 BAT (in) "Battery voltage sense input. Bypass it with a 0.1 uF capacitor to PGND if there are long inductive leads to battery.", 15 SNS (in) "Charge current-sense input. Battery current is sensed via the voltage drop developed on this pin by an external sense resistor in series with the battery pack. A 0.1-uF capacitor to PGND is required.", 16 ~{CE} (in) "Charger enable input. This active low input, if set high, suspends charge and places the device in the low-power sleep mode. Do not pull up this input to VTSB.", 17 PGND (power) "Power ground input", 18 PGND (power) "Power ground input", 19 NC "No connection. This pin must be left floating in the application.", 20 OUT (power) "Charge current output inductor connection. Connect a zener TVS diode between OUT pin and PGND pin to clamp the voltage spike to protect the power MOSFETs during abnormal conditions.", 21 EP (power) "There is an internal electrical connection between the exposed thermal pad and VSS. The exposed thermal pad must be connected to the same potential as the VSS pin on the printed circuit board. The power pad can be used as a (See Datasheet)"

## BQ24115RHLR
designator U?
Host-controlled Synchronous, Switch-Mode Li-Ion Charger with 2 A FET in QFN-20, 1 to 3 Cells, 4.3 V, -40 to 85 degC, 20-pin QFN (RHL), Green (RoHS & no Sb/Br); PartNumber: BQ24115RHLR; Manufacturer: Texas Instruments; Lead Acid: N; Li-Ion: Y; SubFamily: Battery Charge Management; Vin(Min)(V): 4.3; DatasheetVersion: SLUS606O; PackageVersion: revJ, Dec-2011; PackageReference: RHL20-3050X2050TP; PackageDescription: 20-Leads Plastic Quad Flatpack No-Lead, 4.5 x 3.5 x 0.9 mm Body, 0.5 mm Pitch, Exposed Pad; Supplier 1: Digi-Key; Supplier Part Number 1: 296-17160-2-ND; Supplier Part Number 3: 296-17160-6-ND; Eco-Plan: Green (RoHS & no Sb/Br); Li-Polymer: Y; NiCd: N; NiMH: N; Over Voltage Protection: N; Mounting Technology: Surface Mount; ComponentLink1Description: Datasheet; ComponentLink1URL: http://www.ti.com/general/docs/lit/getliterature.tsp?genericPartNumber=BQ24115&fileType=pdf
footprint RHL20-3050X2050TP (QFN, 20-Leads, Body 4.5x3.5mm, Pitch 0.5mm, Thermal Pad 3.05x2.05mm, TI Recommended)
pins: 1 OUT (power) "Charge current output inductor connection. Connect a zener TVS diode between OUT pin and PGND pin to clamp the voltage spike to protect the power MOSFETs during abnormal conditions.", 2 STAT1 (oc) "Charge status 1 (open-drain output). When the transistor turns on indicates charge in process. When it is off and with the condition of STAT2 indicates various charger conditions (See Table 1)", 3 IN (power) "Charger input voltage.", 4 IN (power) "Charger input voltage.", 5 ~{PG} (oc) "Power-good status output (open drain). The transistor turns on when a valid VCC is detected. It is turned off in the sleep mode. P\G\ can be used to drive a LED or communicate with a host processor.", 6 VCC (power) "Analog device input. A 0.1 uF capacitor to VSS is required.", 7 CMODE (in) "Charge mode selection: low for precharge as set by ISET2 pin and high (pull up to VTSB or <7 V) for fast charge as set by ISET1.", 8 ISET1 (in) "Charger current set point 1 (fast charge). Use a resistor to ground to set this value.", 9 ISET2 (in) "Charge current set point 2 (precharge and termination), set by a resistor connected to ground. A low-level CMODE signal selects the ISET2 charge rate, but if the battery voltage reaches the regulation set point, bqSWITCHER (See Datasheet)", 10 VSS (power) "Analog ground input", 11 VTSB "TS internal bias regulator voltage. Connect capacitor (with a value between a 0.1-uF and 1-uF) between this output and VSS.", 12 TS (in) "Temperature sense input. This input monitors its voltage against an internal threshold to determine if charging is allowed. Use an NTC thermistor and a voltage divider powered from VTSB to develop this voltage. (See Figure (See Datasheet)", 13 FB (in) "Output voltage analog feedback adjustment. Connect the output of a resistive voltage divider powered from the battery terminals to this node to adjust the output battery voltage regulation.", 14 BAT (in) "Battery voltage sense input. Bypass it with a 0.1 uF capacitor to PGND if there are long inductive leads to battery.", 15 SNS (in) "Charge current-sense input. Battery current is sensed via the voltage drop developed on this pin by an external sense resistor in series with the battery pack. A 0.1-uF capacitor to PGND is required.", 16 ~{CE} (in) "Charger enable input. This active low input, if set high, suspends charge and places the device in the low-power sleep mode. Do not pull up this input to VTSB.", 17 PGND (power) "Power ground input", 18 PGND (power) "Power ground input", 19 NC "No connection. This pin must be left floating in the application.", 20 OUT (power) "Charge current output inductor connection. Connect a zener TVS diode between OUT pin and PGND pin to clamp the voltage spike to protect the power MOSFETs during abnormal conditions.", 21 EP (power) "There is an internal electrical connection between the exposed thermal pad and VSS. The exposed thermal pad must be connected to the same potential as the VSS pin on the printed circuit board. The power pad can be used as a (See Datasheet)"

## BQ24115RHLRG4
designator U?
Host-controlled Synchronous, Switch-Mode Li-Ion Charger with 2 A FET in QFN-20, 1 to 3 Cells, 4.3 V, -40 to 85 degC, 20-pin QFN (RHL), Green (RoHS & no Sb/Br); PartNumber: BQ24115RHLRG4; Manufacturer: Texas Instruments; Lead Acid: N; Li-Ion: Y; SubFamily: Battery Charge Management; Vin(Min)(V): 4.3; DatasheetVersion: SLUS606O; PackageVersion: revJ, Dec-2011; PackageReference: RHL20-3050X2050TP; PackageDescription: 20-Leads Plastic Quad Flatpack No-Lead, 4.5 x 3.5 x 0.9 mm Body, 0.5 mm Pitch, Exposed Pad; Supplier 1: Digi-Key; Supplier Part Number 1: BQ24115RHLRG4-ND; Supplier Part Number 3: 595-BQ24115RHLRG4; Eco-Plan: Green (RoHS & no Sb/Br); Li-Polymer: Y; NiCd: N; NiMH: N; Over Voltage Protection: N; Mounting Technology: Surface Mount; ComponentLink1Description: Datasheet; ComponentLink1URL: http://www.ti.com/general/docs/lit/getliterature.tsp?genericPartNumber=BQ24115&fileType=pdf
footprint RHL20-3050X2050TP (QFN, 20-Leads, Body 4.5x3.5mm, Pitch 0.5mm, Thermal Pad 3.05x2.05mm, TI Recommended)
pins: 1 OUT (power) "Charge current output inductor connection. Connect a zener TVS diode between OUT pin and PGND pin to clamp the voltage spike to protect the power MOSFETs during abnormal conditions.", 2 STAT1 (oc) "Charge status 1 (open-drain output). When the transistor turns on indicates charge in process. When it is off and with the condition of STAT2 indicates various charger conditions (See Table 1)", 3 IN (power) "Charger input voltage.", 4 IN (power) "Charger input voltage.", 5 ~{PG} (oc) "Power-good status output (open drain). The transistor turns on when a valid VCC is detected. It is turned off in the sleep mode. P\G\ can be used to drive a LED or communicate with a host processor.", 6 VCC (power) "Analog device input. A 0.1 uF capacitor to VSS is required.", 7 CMODE (in) "Charge mode selection: low for precharge as set by ISET2 pin and high (pull up to VTSB or <7 V) for fast charge as set by ISET1.", 8 ISET1 (in) "Charger current set point 1 (fast charge). Use a resistor to ground to set this value.", 9 ISET2 (in) "Charge current set point 2 (precharge and termination), set by a resistor connected to ground. A low-level CMODE signal selects the ISET2 charge rate, but if the battery voltage reaches the regulation set point, bqSWITCHER (See Datasheet)", 10 VSS (power) "Analog ground input", 11 VTSB "TS internal bias regulator voltage. Connect capacitor (with a value between a 0.1-uF and 1-uF) between this output and VSS.", 12 TS (in) "Temperature sense input. This input monitors its voltage against an internal threshold to determine if charging is allowed. Use an NTC thermistor and a voltage divider powered from VTSB to develop this voltage. (See Figure (See Datasheet)", 13 FB (in) "Output voltage analog feedback adjustment. Connect the output of a resistive voltage divider powered from the battery terminals to this node to adjust the output battery voltage regulation.", 14 BAT (in) "Battery voltage sense input. Bypass it with a 0.1 uF capacitor to PGND if there are long inductive leads to battery.", 15 SNS (in) "Charge current-sense input. Battery current is sensed via the voltage drop developed on this pin by an external sense resistor in series with the battery pack. A 0.1-uF capacitor to PGND is required.", 16 ~{CE} (in) "Charger enable input. This active low input, if set high, suspends charge and places the device in the low-power sleep mode. Do not pull up this input to VTSB.", 17 PGND (power) "Power ground input", 18 PGND (power) "Power ground input", 19 NC "No connection. This pin must be left floating in the application.", 20 OUT (power) "Charge current output inductor connection. Connect a zener TVS diode between OUT pin and PGND pin to clamp the voltage spike to protect the power MOSFETs during abnormal conditions.", 21 EP (power) "There is an internal electrical connection between the exposed thermal pad and VSS. The exposed thermal pad must be connected to the same potential as the VSS pin on the printed circuit board. The power pad can be used as a (See Datasheet)"